# Altium schematic symbol library ERJPA3F1003V.SchLib: 1 symbol
Pins are listed as number, name and electrical type; pins without a type are passive.

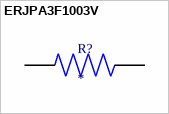
[diagram p0: symbol ERJPA3F1003V]

## ERJPA3F1003V
designator R?
MF: {'manufacturer': u'Panasonic'}; MP: ERJPA3F1003V; Package: None; Price: None; Value: *; Availability: Unavailable
footprint RES_ERJPA3F1003V
pins: 1, 2